# Altium schematic symbol library ICs-Microprocessors.SchLib: 1 symbol
Pins are listed as number, name and electrical type; pins without a type are passive.

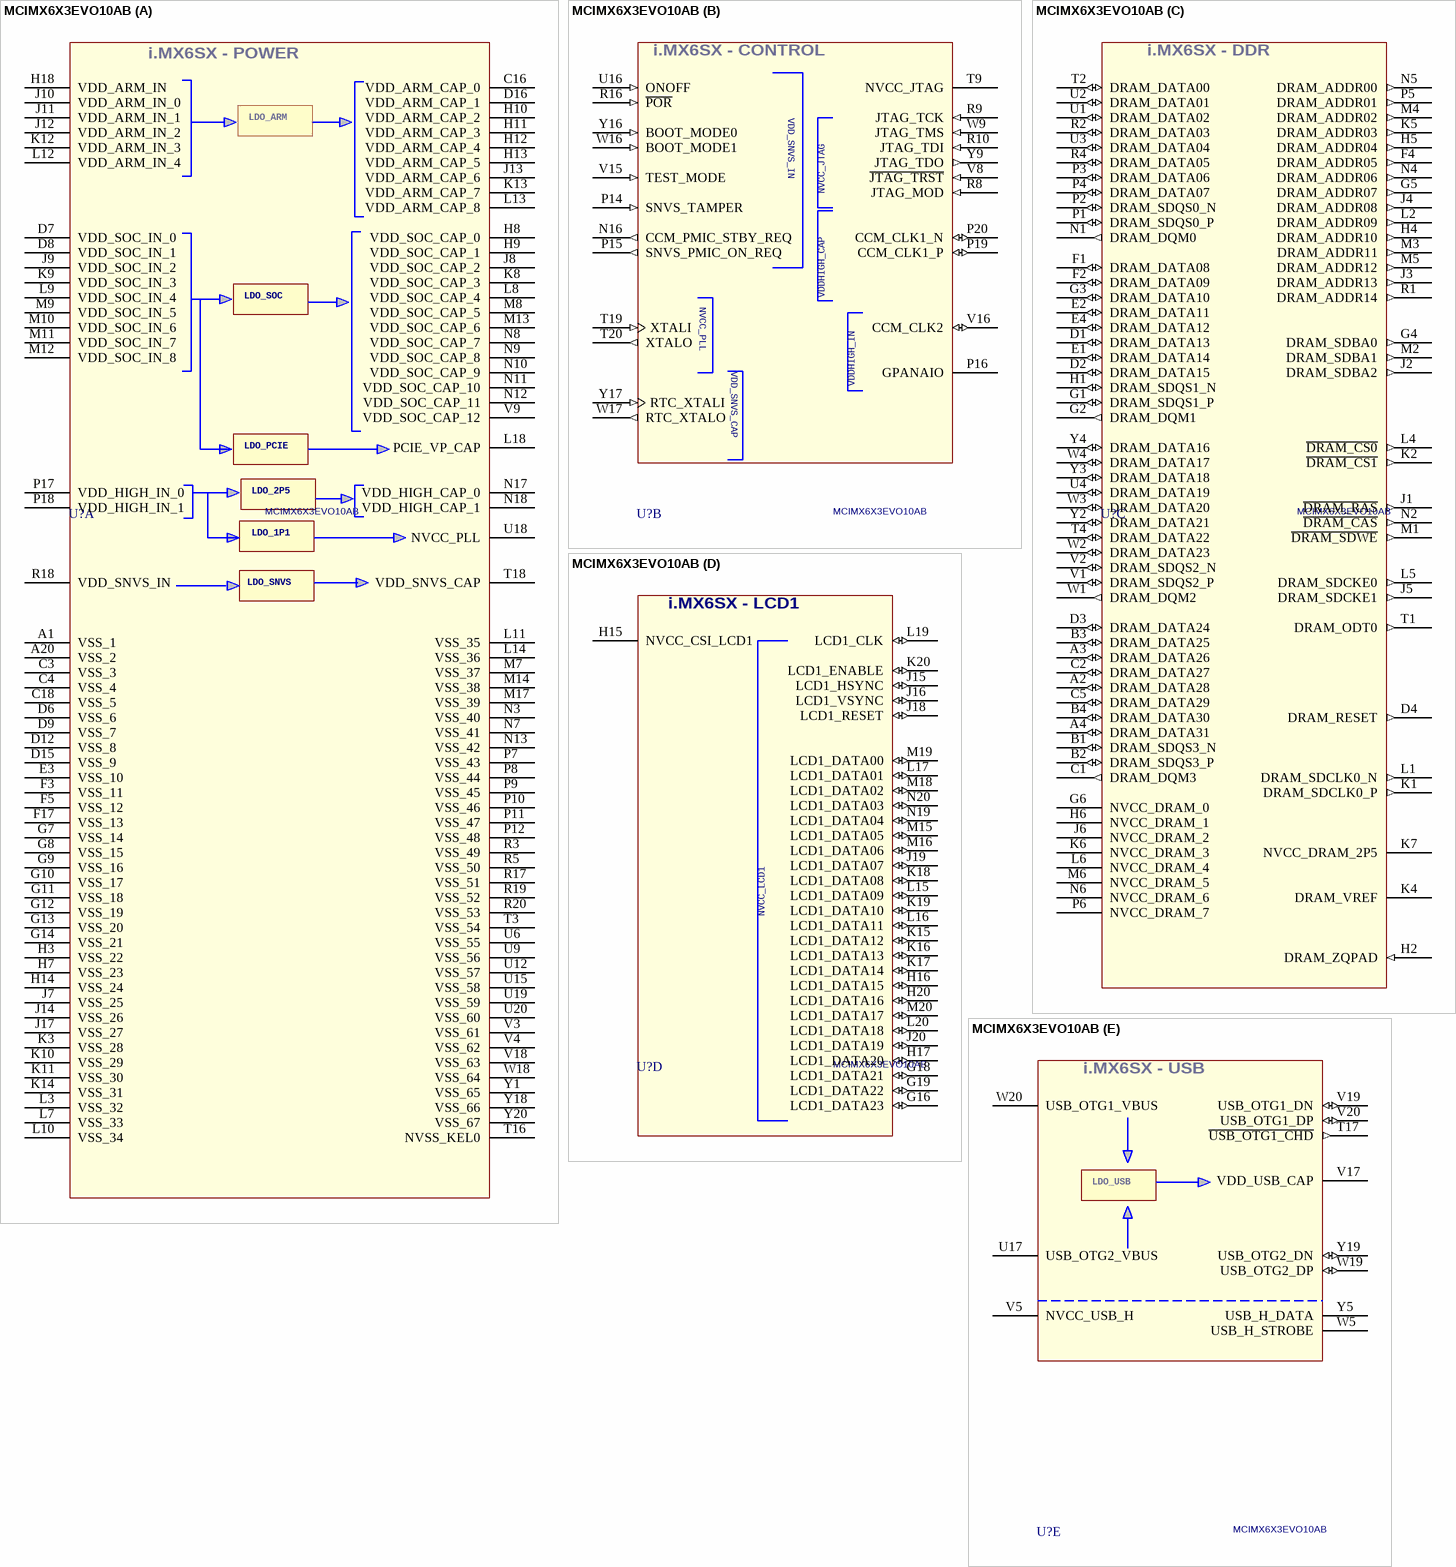
[diagram p0: symbol MCIMX6X3EVO10AB]

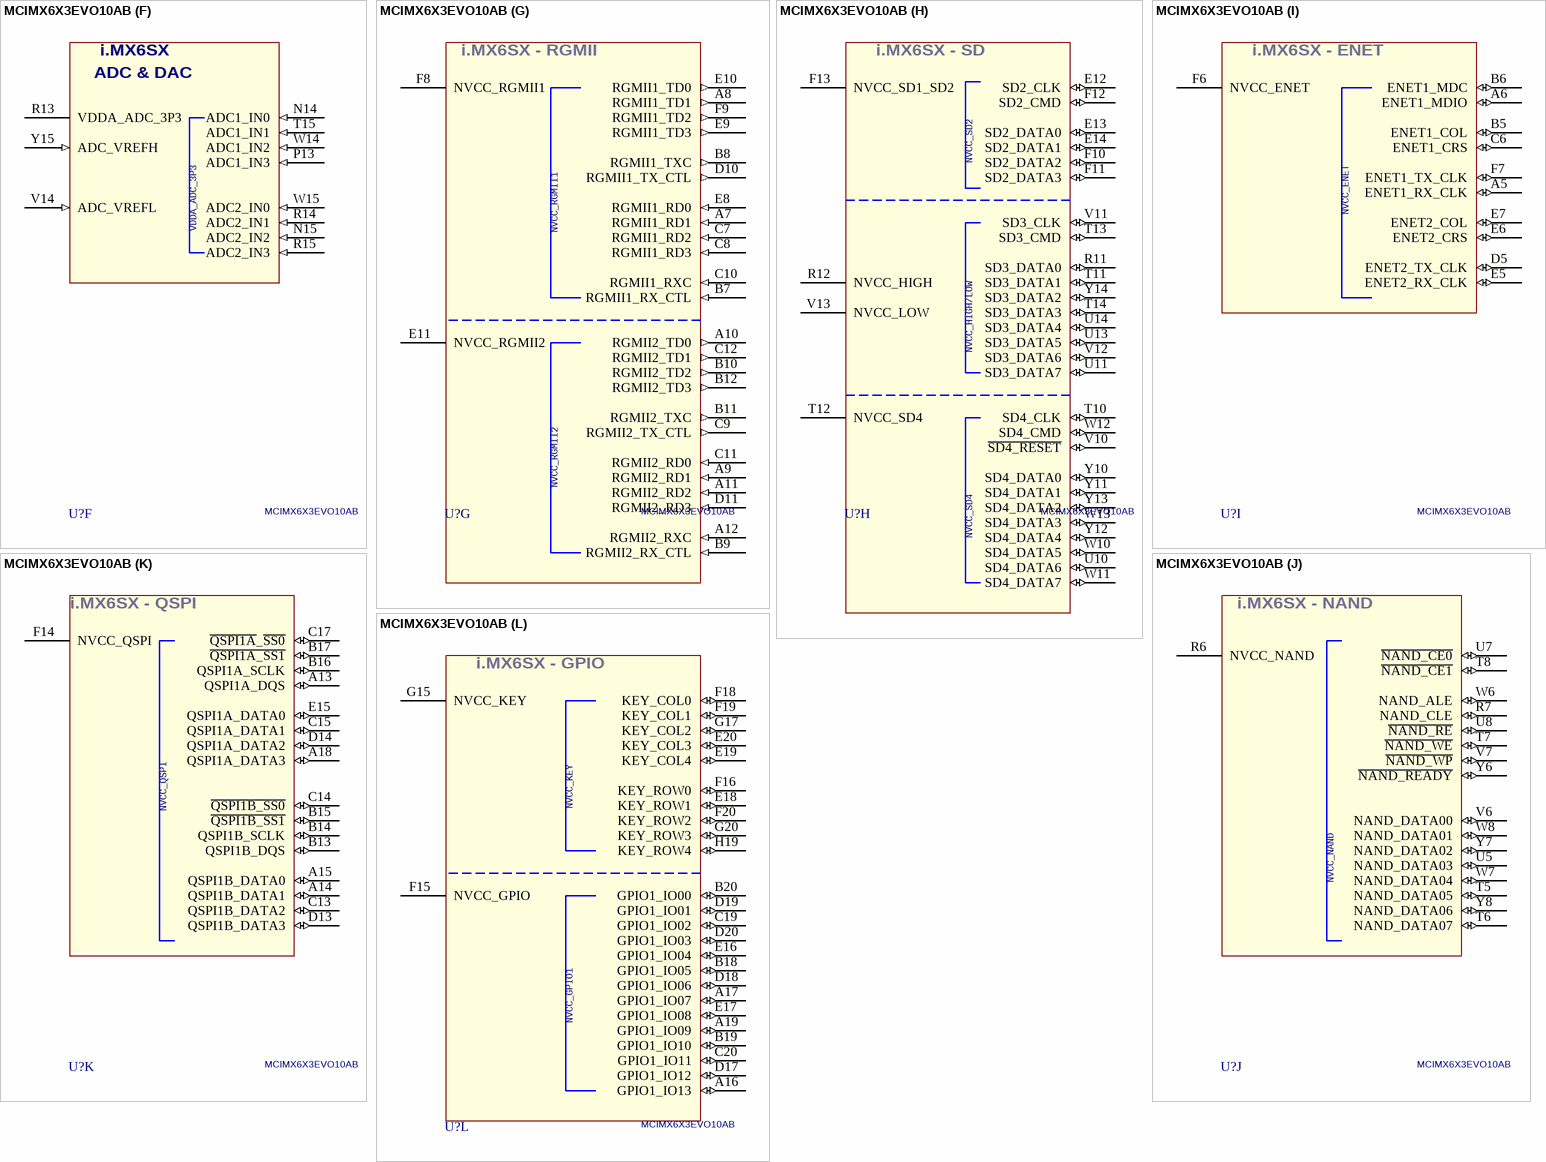
[diagram p1: symbol MCIMX6X3EVO10AB]

## MCIMX6X3EVO10AB
designator U?
IC MPU I.MX6SX 1GHZ 400MAPBGA; Manufacturer: NXP; PartNumber: MCIMX6X3EVO10AB; Mounting Technology: Surface Mount; PackageReference: BGA-400
footprint BGA-400 (BGA, 400-Leads, Body 14.00x14.00mmx1.30mm, Pitch 0.65mm)
part A pins: A1 VSS_1 (power), A20 VSS_2 (power), C3 VSS_3 (power), C4 VSS_4 (power), C16 VDD_ARM_CAP_0 (power), C18 VSS_5 (power), D6 VSS_6 (power), D7 VDD_SOC_IN_0 (power), D8 VDD_SOC_IN_1 (power), D9 VSS_7 (power), D12 VSS_8 (power), D15 VSS_9 (power), D16 VDD_ARM_CAP_1 (power), E3 VSS_10 (power), F3 VSS_11 (power), F5 VSS_12 (power), F17 VSS_13 (power), G7 VSS_14 (power), G8 VSS_15 (power), G9 VSS_16 (power), G10 VSS_17 (power), G11 VSS_18 (power), G12 VSS_19 (power), G13 VSS_20 (power), G14 VSS_21 (power), H3 VSS_22 (power), H7 VSS_23 (power), H8 VDD_SOC_CAP_0 (power), H9 VDD_SOC_CAP_1 (power), H10 VDD_ARM_CAP_2 (power), H11 VDD_ARM_CAP_3 (power), H12 VDD_ARM_CAP_4 (power), H13 VDD_ARM_CAP_5 (power), H14 VSS_24 (power), H18 VDD_ARM_IN (power), J7 VSS_25 (power), J8 VDD_SOC_CAP_2 (power), J9 VDD_SOC_IN_2 (power), J10 VDD_ARM_IN_0 (power), J11 VDD_ARM_IN_1 (power), J12 VDD_ARM_IN_2 (power), J13 VDD_ARM_CAP_6 (power), J14 VSS_26 (power), J17 VSS_27 (power), K3 VSS_28 (power), K8 VDD_SOC_CAP_3 (power), K9 VDD_SOC_IN_3 (power), K10 VSS_29 (power), K11 VSS_30 (power), K12 VDD_ARM_IN_3 (power), K13 VDD_ARM_CAP_7 (power), K14 VSS_31 (power), L3 VSS_32 (power), L7 VSS_33 (power), L8 VDD_SOC_CAP_4 (power), L9 VDD_SOC_IN_4 (power), L10 VSS_34 (power), L11 VSS_35 (power), L12 VDD_ARM_IN_4 (power), L13 VDD_ARM_CAP_8 (power), L14 VSS_36 (power), L18 PCIE_VP_CAP (power), M7 VSS_37 (power), M8 VDD_SOC_CAP_5 (power), M9 VDD_SOC_IN_5 (power), M10 VDD_SOC_IN_6 (power), M11 VDD_SOC_IN_7 (power), M12 VDD_SOC_IN_8 (power), M13 VDD_SOC_CAP_6 (power), M14 VSS_38 (power), M17 VSS_39 (power), N3 VSS_40 (power), N7 VSS_41 (power), N8 VDD_SOC_CAP_7 (power), N9 VDD_SOC_CAP_8 (power), N10 VDD_SOC_CAP_9 (power), N11 VDD_SOC_CAP_10 (power), N12 VDD_SOC_CAP_11 (power), N13 VSS_42 (power), N17 VDD_HIGH_CAP_0 (power), N18 VDD_HIGH_CAP_1 (power), P7 VSS_43 (power), P8 VSS_44 (power), P9 VSS_45 (power), P10 VSS_46 (power), P11 VSS_47 (power), P12 VSS_48 (power), P17 VDD_HIGH_IN_0 (power), P18 VDD_HIGH_IN_1 (power), R3 VSS_49 (power), R5 VSS_50 (power), R17 VSS_51 (power), R18 VDD_SNVS_IN (power), R19 VSS_52 (power), R20 VSS_53 (power), T3 VSS_54 (power), T16 NVSS_KEL0 (power), T18 VDD_SNVS_CAP (power), U6 VSS_55 (power), U9 VSS_56 (power), U12 VSS_57 (power), U15 VSS_58 (power), U18 NVCC_PLL (power), U19 VSS_59 (power), U20 VSS_60 (power), V3 VSS_61 (power), V4 VSS_62 (power), V9 VDD_SOC_CAP_12 (power), V18 VSS_63 (power), W18 VSS_64 (power), Y1 VSS_65 (power), Y18 VSS_66 (power), Y20 VSS_67 (power)
part B pins: N16 CCM_PMIC_STBY_REQ (out), P14 SNVS_TAMPER (in), P15 SNVS_PMIC_ON_REQ (out), P16 GPANAIO (power), P19 CCM_CLK1_P (io), P20 CCM_CLK1_N (io), R8 JTAG_MOD (in), R9 JTAG_TCK (in), R10 JTAG_TDI (in), R16 ~{POR} (in), T9 NVCC_JTAG (power), T19 XTALI (in), T20 XTALO (out), U16 ONOFF (in), V8 ~{JTAG_TRST} (in), V15 TEST_MODE (in), V16 CCM_CLK2 (io), W9 JTAG_TMS (in), W16 BOOT_MODE1 (in), W17 RTC_XTALO (out), Y9 JTAG_TDO (out), Y16 BOOT_MODE0 (in), Y17 RTC_XTALI (in)
part C pins: A2 DRAM_DATA28 (io), A3 DRAM_DATA26 (io), A4 DRAM_DATA31 (io), B1 DRAM_SDQS3_N (io), B2 DRAM_SDQS3_P (io), B3 DRAM_DATA25 (io), B4 DRAM_DATA30 (io), C1 DRAM_DQM3 (out), C2 DRAM_DATA27 (io), C5 DRAM_DATA29 (io), D1 DRAM_DATA13 (io), D2 DRAM_DATA15 (io), D3 DRAM_DATA24 (io), D4 DRAM_RESET (out), E1 DRAM_DATA14 (io), E2 DRAM_DATA11 (io), E4 DRAM_DATA12 (io), F1 DRAM_DATA08 (io), F2 DRAM_DATA09 (io), F4 DRAM_ADDR05 (out), G1 DRAM_SDQS1_P (io), G2 DRAM_DQM1 (out), G3 DRAM_DATA10 (io), G4 DRAM_SDBA0 (out), G5 DRAM_ADDR07 (out), G6 NVCC_DRAM_0 (power), H1 DRAM_SDQS1_N (io), H2 DRAM_ZQPAD (in), H4 DRAM_ADDR10 (out), H5 DRAM_ADDR04 (out), H6 NVCC_DRAM_1 (power), J1 ~{DRAM_RAS} (out), J2 DRAM_SDBA2 (out), J3 DRAM_ADDR13 (out), J4 DRAM_ADDR08 (out), J5 DRAM_SDCKE1 (out), J6 NVCC_DRAM_2 (power), K1 DRAM_SDCLK0_P (out), K2 ~{DRAM_CS1} (out), K4 DRAM_VREF (power), K5 DRAM_ADDR03 (out), K6 NVCC_DRAM_3 (power), K7 NVCC_DRAM_2P5 (power), L1 DRAM_SDCLK0_N (out), L2 DRAM_ADDR09 (out), L4 ~{DRAM_CS0} (out), L5 DRAM_SDCKE0 (out), L6 NVCC_DRAM_4 (power), M1 ~{DRAM_SDWE} (out), M2 DRAM_SDBA1 (out), M3 DRAM_ADDR11 (out), M4 DRAM_ADDR02 (out), M5 DRAM_ADDR12 (out), M6 NVCC_DRAM_5 (power), N1 DRAM_DQM0 (out), N2 ~{DRAM_CAS} (out), N4 DRAM_ADDR06 (out), N5 DRAM_ADDR00 (out), N6 NVCC_DRAM_6 (power), P1 DRAM_SDQS0_P (io), P2 DRAM_SDQS0_N (io), P3 DRAM_DATA06 (io), P4 DRAM_DATA07 (io), P5 DRAM_ADDR01 (out), P6 NVCC_DRAM_7 (power), R1 DRAM_ADDR14 (out), R2 DRAM_DATA03 (io), R4 DRAM_DATA05 (io), T1 DRAM_ODT0 (out), T2 DRAM_DATA00 (io), T4 DRAM_DATA22 (io), U1 DRAM_DATA02 (io), U2 DRAM_DATA01 (io), U3 DRAM_DATA04 (io), U4 DRAM_DATA19 (io), V1 DRAM_SDQS2_P (io), V2 DRAM_SDQS2_N (io), W1 DRAM_DQM2 (out), W2 DRAM_DATA23 (io), W3 DRAM_DATA20 (io), W4 DRAM_DATA17 (io), Y2 DRAM_DATA21 (io), Y3 DRAM_DATA18 (io), Y4 DRAM_DATA16 (io)
part D pins: G16 LCD1_DATA23 (io), G18 LCD1_DATA21 (io), G19 LCD1_DATA22 (io), H15 NVCC_CSI_LCD1 (power), H16 LCD1_DATA15 (io), H17 LCD1_DATA20 (io), H20 LCD1_DATA16 (io), J15 LCD1_HSYNC (io), J16 LCD1_VSYNC (io), J18 LCD1_RESET (io), J19 LCD1_DATA07 (io), J20 LCD1_DATA19 (io), K15 LCD1_DATA12 (io), K16 LCD1_DATA13 (io), K17 LCD1_DATA14 (io), K18 LCD1_DATA08 (io), K19 LCD1_DATA10 (io), K20 LCD1_ENABLE (io), L15 LCD1_DATA09 (io), L16 LCD1_DATA11 (io), L17 LCD1_DATA01 (io), L19 LCD1_CLK (io), L20 LCD1_DATA18 (io), M15 LCD1_DATA05 (io), M16 LCD1_DATA06 (io), M18 LCD1_DATA02 (io), M19 LCD1_DATA00 (io), M20 LCD1_DATA17 (io), N19 LCD1_DATA04 (io), N20 LCD1_DATA03 (io)
part E pins: T17 ~{USB_OTG1_CHD} (out), U17 USB_OTG2_VBUS (power), V5 NVCC_USB_H (power), V17 VDD_USB_CAP (power), V19 USB_OTG1_DN (io), V20 USB_OTG1_DP (io), W5 USB_H_STROBE, W19 USB_OTG2_DP (io), W20 USB_OTG1_VBUS (power), Y5 USB_H_DATA, Y19 USB_OTG2_DN (io)
part F pins: N14 ADC1_IN0 (in), N15 ADC2_IN2 (in), P13 ADC1_IN3 (in), R13 VDDA_ADC_3P3 (power), R14 ADC2_IN1 (in), R15 ADC2_IN3 (in), T15 ADC1_IN1 (in), V14 ADC_VREFL (in), W14 ADC1_IN2 (in), W15 ADC2_IN0 (in), Y15 ADC_VREFH (in)
part G pins: A7 RGMII1_RD1 (in), A8 RGMII1_TD1 (out), A9 RGMII2_RD1 (in), A10 RGMII2_TD0 (out), A11 RGMII2_RD2 (in), A12 RGMII2_RXC (in), B7 RGMII1_RX_CTL (in), B8 RGMII1_TXC (out), B9 RGMII2_RX_CTL (in), B10 RGMII2_TD2 (out), B11 RGMII2_TXC (out), B12 RGMII2_TD3 (out), C7 RGMII1_RD2 (in), C8 RGMII1_RD3 (in), C9 RGMII2_TX_CTL (out), C10 RGMII1_RXC (in), C11 RGMII2_RD0 (in), C12 RGMII2_TD1 (out), D10 RGMII1_TX_CTL (out), D11 RGMII2_RD3 (in), E8 RGMII1_RD0 (in), E9 RGMII1_TD3 (out), E10 RGMII1_TD0 (out), E11 NVCC_RGMII2 (power), F8 NVCC_RGMII1 (power), F9 RGMII1_TD2 (out)
part H pins: E12 SD2_CLK (io), E13 SD2_DATA0 (io), E14 SD2_DATA1 (io), F10 SD2_DATA2 (io), F11 SD2_DATA3 (io), F12 SD2_CMD (io), F13 NVCC_SD1_SD2 (power), R11 SD3_DATA0 (io), R12 NVCC_HIGH (power), T10 SD4_CLK (io), T11 SD3_DATA1 (io), T12 NVCC_SD4 (power), T13 SD3_CMD (io), T14 SD3_DATA3 (io), U10 SD4_DATA6 (io), U11 SD3_DATA7 (io), U13 SD3_DATA5 (io), U14 SD3_DATA4 (io), V10 ~{SD4_RESET} (io), V11 SD3_CLK (io), V12 SD3_DATA6 (io), V13 NVCC_LOW (power), W10 SD4_DATA5 (io), W11 SD4_DATA7 (io), W12 SD4_CMD (io), W13 SD4_DATA3 (io), Y10 SD4_DATA0 (io), Y11 SD4_DATA1 (io), Y12 SD4_DATA4 (io), Y13 SD4_DATA2 (io), Y14 SD3_DATA2 (io)
part I pins: A5 ENET1_RX_CLK (io), A6 ENET1_MDIO (io), B5 ENET1_COL (io), B6 ENET1_MDC (io), C6 ENET1_CRS (io), D5 ENET2_TX_CLK (io), E5 ENET2_RX_CLK (io), E6 ENET2_CRS (io), E7 ENET2_COL (io), F6 NVCC_ENET (power), F7 ENET1_TX_CLK (io)
part J pins: R6 NVCC_NAND (power), R7 NAND_CLE (io), T5 NAND_DATA05 (io), T6 NAND_DATA07 (io), T7 ~{NAND_WE} (io), T8 ~{NAND_CE1} (io), U5 NAND_DATA03 (io), U7 ~{NAND_CE0} (io), U8 ~{NAND_RE} (io), V6 NAND_DATA00 (io), V7 ~{NAND_WP} (io), W6 NAND_ALE (io), W7 NAND_DATA04 (io), W8 NAND_DATA01 (io), Y6 ~{NAND_READY} (io), Y7 NAND_DATA02 (io), Y8 NAND_DATA06 (io)
part K pins: A13 QSPI1A_DQS (io), A14 QSPI1B_DATA1 (io), A15 QSPI1B_DATA0 (io), A18 QSPI1A_DATA3 (io), B13 QSPI1B_DQS (io), B14 QSPI1B_SCLK (io), B15 ~{QSPI1B_SS1} (io), B16 QSPI1A_SCLK (io), B17 ~{QSPI1A_SS1} (io), C13 QSPI1B_DATA2 (io), C14 ~{QSPI1B_SS0} (io), C15 QSPI1A_DATA1 (io), C17 ~{QSPI1A}_~{SS0} (io), D13 QSPI1B_DATA3 (io), D14 QSPI1A_DATA2 (io), E15 QSPI1A_DATA0 (io), F14 NVCC_QSPI (power)
part L pins: A16 GPIO1_IO13 (io), A17 GPIO1_IO07 (io), A19 GPIO1_IO09 (io), B18 GPIO1_IO05 (io), B19 GPIO1_IO10 (io), B20 GPIO1_IO00 (io), C19 GPIO1_IO02 (io), C20 GPIO1_IO11 (io), D17 GPIO1_IO12 (io), D18 GPIO1_IO06 (io), D19 GPIO1_IO01 (io), D20 GPIO1_IO03 (io), E16 GPIO1_IO04 (io), E17 GPIO1_IO08 (io), E18 KEY_ROW1 (io), E19 KEY_COL4 (io), E20 KEY_COL3 (io), F15 NVCC_GPIO (power), F16 KEY_ROW0 (io), F18 KEY_COL0 (io), F19 KEY_COL1 (io), F20 KEY_ROW2 (io), G15 NVCC_KEY (power), G17 KEY_COL2 (io), G20 KEY_ROW3 (io), H19 KEY_ROW4 (io)
part A text: i.MX6SX - POWER; LDO_ARM; LDO_SOC; LDO_PCIE; LDO_2P5; LDO_1P1; LDO_SNVS
part B text: i.MX6SX - CONTROL; VDDHIGH_CAP; VDDHIGH_IN
part C text: i.MX6SX - DDR
part D text: i.MX6SX - LCD1; NVCC_LCD1
part E text: i.MX6SX - USB; LDO_USB
part F text: i.MX6SX; ADC & DAC
part G text: i.MX6SX - RGMII
part H text: i.MX6SX - SD; NVCC_SD2; NVCC_HIGH/LOW
part I text: i.MX6SX - ENET
part J text: i.MX6SX - NAND
part K text: i.MX6SX - QSPI
part L text: i.MX6SX - GPIO; NVCC_GPIO1